# EAGLE library part STMICROELECTRONICS_STM32F205RBT6 (library STMicroelectronics - STM32F205RBT6)
MC-ARM-STM32F20X-SQ64
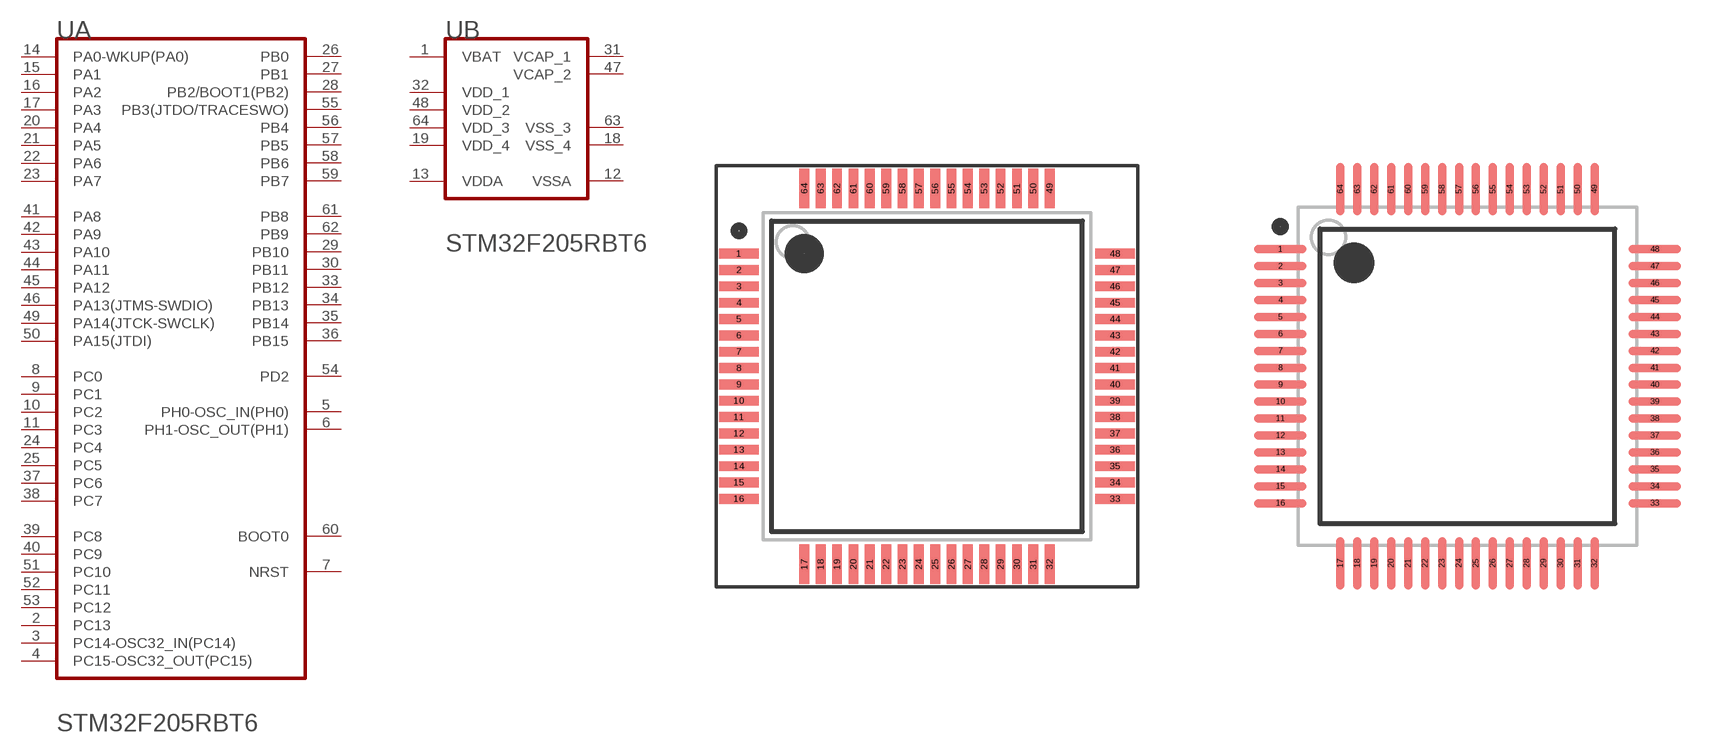
[diagram p0: symbol with the pads of STMICROELECTRONICS_STM32F205RBT6_0; footprints STMICROELECTRONICS_STM32F205RBT6_0, STMICROELECTRONICS_STM32F205RBT6_1]

Designator prefix U; gates A=STMICROELECTRONICS_STM32F205RBT6_0_0 B=STMICROELECTRONICS_STM32F205RBT6_0_1

## STMICROELECTRONICS_STM32F205RBT6STMICROELECTRONICS_STM32F205RBT6_0_0 (CIIVA_IDS: 3247052; COMPONENT_LINK_1_DESCRIPTION: Manufacturer URL; COMPONENT_LINK_1_URL: http://www.st.com/web/en/home.html; COMPONENT_LINK_3_DESCRIPTION: Package Specification; COMPONENT_LINK_3_URL: http://www.st.com/st-web-ui/static/active/en/resource/technical/document/datasheet/DM00037051.pdf; CORE: ARM Cortex-M3; DATASHEET: http://www.st.com/st-web-ui/static/active/en/resource/technical/document/datasheet/CD00237391.pdf; DATASHEET_VERSION: Rev. 9; DA_CONVERTER: 2x12-bit (2 Channel); FLASH_SIZE_PROG_KB: 128; FOOTPRINT_VARIANT_NAME_0: STM-LQFP64_V; FOOTPRINT_VARIANT_NAME_1: Level C; FOOTPRINT_VARIANT_NAME_2: Level B; FOOTPRINT_VARIANT_NAME_3: Level A; IMPORTED: yes; IMPORTED_FROM: vault; IMPORT_TS: 1521848045; INTERNAL_RAM_SIZE_KB: 64; IOS_HIGH_CURRENT: 51; MF: STMicroelectronics; MOUNTING_TECHNOLOGY: Surface Mount; MPN: STM32F205RBT6; OPERATING_FREQUENCYF_PROCESSOR_SPEED_MHZ: 120; PACKAGE: LQFP64; PACKAGE_DESCRIPTION: 64-Pin Low Profile Quad Flat Package, 10 x 10 mm Body, 0.5 mm Pitch; PACKAGE_VERSION: Rev. 4, 06/2013; PACKING: Tray; PREFIX: U; RELEASE_DATE: 1387182878; SUPPLY_VOLTAGEVCC_MIN_V: 1.8; VAULT_GUID: B9A76BA8-8D89-41EF-B639-2242C6D4A83A; VAULT_REVISION: 779F36A8-E3F5-4D53-926F-EE0FD9A3AA4E)  [STMICROELECTRONICS_STM32F205RBT6_0]
1  B:VBAT  pwr
2  A:PC13
3  A:PC14-OSC32_IN(PC14)
4  A:PC15-OSC32_OUT(PC15)
5  A:PH0-OSC_IN(PH0)
6  A:PH1-OSC_OUT(PH1)
7  A:NRST
8  A:PC0
9  A:PC1
10  A:PC2
11  A:PC3
12  B:VSSA  pwr
13  B:VDDA  pwr
14  A:PA0-WKUP(PA0)
15  A:PA1
16  A:PA2
17  A:PA3
18  B:VSS_4  pwr
19  B:VDD_4  pwr
20  A:PA4
21  A:PA5
22  A:PA6
23  A:PA7
24  A:PC4
25  A:PC5
26  A:PB0
27  A:PB1
28  A:PB2/BOOT1(PB2)
29  A:PB10
30  A:PB11
31  B:VCAP_1  pwr
32  B:VDD_1  pwr
33  A:PB12
34  A:PB13
35  A:PB14
36  A:PB15
37  A:PC6
38  A:PC7
39  A:PC8
40  A:PC9
41  A:PA8
42  A:PA9
43  A:PA10
44  A:PA11
45  A:PA12
46  A:PA13(JTMS-SWDIO)
47  B:VCAP_2  pwr
48  B:VDD_2  pwr
49  A:PA14(JTCK-SWCLK)
50  A:PA15(JTDI)
51  A:PC10
52  A:PC11
53  A:PC12
54  A:PD2
55  A:PB3(JTDO/TRACESWO)
56  A:PB4
57  A:PB5
58  A:PB6
59  A:PB7
60  A:BOOT0  in
61  A:PB8
62  A:PB9
63  B:VSS_3  pwr
64  B:VDD_3  pwr

## STMICROELECTRONICS_STM32F205RBT6STMICROELECTRONICS_STM32F205RBT6_0_1 (CIIVA_IDS: 3247052; COMPONENT_LINK_1_DESCRIPTION: Manufacturer URL; COMPONENT_LINK_1_URL: http://www.st.com/web/en/home.html; COMPONENT_LINK_3_DESCRIPTION: Package Specification; COMPONENT_LINK_3_URL: http://www.st.com/st-web-ui/static/active/en/resource/technical/document/datasheet/DM00037051.pdf; CORE: ARM Cortex-M3; DATASHEET: http://www.st.com/st-web-ui/static/active/en/resource/technical/document/datasheet/CD00237391.pdf; DATASHEET_VERSION: Rev. 9; DA_CONVERTER: 2x12-bit (2 Channel); FLASH_SIZE_PROG_KB: 128; FOOTPRINT_VARIANT_NAME_0: STM-LQFP64_V; FOOTPRINT_VARIANT_NAME_1: Level C; FOOTPRINT_VARIANT_NAME_2: Level B; FOOTPRINT_VARIANT_NAME_3: Level A; IMPORTED: yes; IMPORTED_FROM: vault; IMPORT_TS: 1521848045; INTERNAL_RAM_SIZE_KB: 64; IOS_HIGH_CURRENT: 51; MF: STMicroelectronics; MOUNTING_TECHNOLOGY: Surface Mount; MPN: STM32F205RBT6; OPERATING_FREQUENCYF_PROCESSOR_SPEED_MHZ: 120; PACKAGE: LQFP64; PACKAGE_DESCRIPTION: 64-Pin Low Profile Quad Flat Package, 10 x 10 mm Body, 0.5 mm Pitch; PACKAGE_VERSION: Rev. 4, 06/2013; PACKING: Tray; PREFIX: U; RELEASE_DATE: 1387182878; SUPPLY_VOLTAGEVCC_MIN_V: 1.8; VAULT_GUID: B9A76BA8-8D89-41EF-B639-2242C6D4A83A; VAULT_REVISION: 779F36A8-E3F5-4D53-926F-EE0FD9A3AA4E)  [STMICROELECTRONICS_STM32F205RBT6_1]
Pads as for STMICROELECTRONICS_STM32F205RBT6_0

## STMICROELECTRONICS_STM32F205RBT6STMICROELECTRONICS_STM32F205RBT6_0_2 (CIIVA_IDS: 3247052; COMPONENT_LINK_1_DESCRIPTION: Manufacturer URL; COMPONENT_LINK_1_URL: http://www.st.com/web/en/home.html; COMPONENT_LINK_3_DESCRIPTION: Package Specification; COMPONENT_LINK_3_URL: http://www.st.com/st-web-ui/static/active/en/resource/technical/document/datasheet/DM00037051.pdf; CORE: ARM Cortex-M3; DATASHEET: http://www.st.com/st-web-ui/static/active/en/resource/technical/document/datasheet/CD00237391.pdf; DATASHEET_VERSION: Rev. 9; DA_CONVERTER: 2x12-bit (2 Channel); FLASH_SIZE_PROG_KB: 128; FOOTPRINT_VARIANT_NAME_0: STM-LQFP64_V; FOOTPRINT_VARIANT_NAME_1: Level C; FOOTPRINT_VARIANT_NAME_2: Level B; FOOTPRINT_VARIANT_NAME_3: Level A; IMPORTED: yes; IMPORTED_FROM: vault; IMPORT_TS: 1521848045; INTERNAL_RAM_SIZE_KB: 64; IOS_HIGH_CURRENT: 51; MF: STMicroelectronics; MOUNTING_TECHNOLOGY: Surface Mount; MPN: STM32F205RBT6; OPERATING_FREQUENCYF_PROCESSOR_SPEED_MHZ: 120; PACKAGE: LQFP64; PACKAGE_DESCRIPTION: 64-Pin Low Profile Quad Flat Package, 10 x 10 mm Body, 0.5 mm Pitch; PACKAGE_VERSION: Rev. 4, 06/2013; PACKING: Tray; PREFIX: U; RELEASE_DATE: 1387182878; SUPPLY_VOLTAGEVCC_MIN_V: 1.8; VAULT_GUID: B9A76BA8-8D89-41EF-B639-2242C6D4A83A; VAULT_REVISION: 779F36A8-E3F5-4D53-926F-EE0FD9A3AA4E)  [STMICROELECTRONICS_STM32F205RBT6_2]
Pads as for STMICROELECTRONICS_STM32F205RBT6_0

## STMICROELECTRONICS_STM32F205RBT6STMICROELECTRONICS_STM32F205RBT6_0_3 (CIIVA_IDS: 3247052; COMPONENT_LINK_1_DESCRIPTION: Manufacturer URL; COMPONENT_LINK_1_URL: http://www.st.com/web/en/home.html; COMPONENT_LINK_3_DESCRIPTION: Package Specification; COMPONENT_LINK_3_URL: http://www.st.com/st-web-ui/static/active/en/resource/technical/document/datasheet/DM00037051.pdf; CORE: ARM Cortex-M3; DATASHEET: http://www.st.com/st-web-ui/static/active/en/resource/technical/document/datasheet/CD00237391.pdf; DATASHEET_VERSION: Rev. 9; DA_CONVERTER: 2x12-bit (2 Channel); FLASH_SIZE_PROG_KB: 128; FOOTPRINT_VARIANT_NAME_0: STM-LQFP64_V; FOOTPRINT_VARIANT_NAME_1: Level C; FOOTPRINT_VARIANT_NAME_2: Level B; FOOTPRINT_VARIANT_NAME_3: Level A; IMPORTED: yes; IMPORTED_FROM: vault; IMPORT_TS: 1521848045; INTERNAL_RAM_SIZE_KB: 64; IOS_HIGH_CURRENT: 51; MF: STMicroelectronics; MOUNTING_TECHNOLOGY: Surface Mount; MPN: STM32F205RBT6; OPERATING_FREQUENCYF_PROCESSOR_SPEED_MHZ: 120; PACKAGE: LQFP64; PACKAGE_DESCRIPTION: 64-Pin Low Profile Quad Flat Package, 10 x 10 mm Body, 0.5 mm Pitch; PACKAGE_VERSION: Rev. 4, 06/2013; PACKING: Tray; PREFIX: U; RELEASE_DATE: 1387182878; SUPPLY_VOLTAGEVCC_MIN_V: 1.8; VAULT_GUID: B9A76BA8-8D89-41EF-B639-2242C6D4A83A; VAULT_REVISION: 779F36A8-E3F5-4D53-926F-EE0FD9A3AA4E)  [STMICROELECTRONICS_STM32F205RBT6_3]
Pads as for STMICROELECTRONICS_STM32F205RBT6_0

## Footprint STMICROELECTRONICS_STM32F205RBT6_0 (pad centres in mm)
MC-ARM-STM32F20X-SQ64
smd 1.2 x 0.3: 1 -5.75,3.75; 2 -5.75,3.25; 3 -5.75,2.75; 4 -5.75,2.25; 5 -5.75,1.75; 6 -5.75,1.25; 7 -5.75,0.75; 8 -5.75,0.25; 9 -5.75,-0.25; 10 -5.75,-0.75; 11 -5.75,-1.25; 12 -5.75,-1.75; 13 -5.75,-2.25; 14 -5.75,-2.75; 15 -5.75,-3.25; 16 -5.75,-3.75; 33 5.75,-3.75; 34 5.75,-3.25; 35 5.75,-2.75; 36 5.75,-2.25; 37 5.75,-1.75; 38 5.75,-1.25; 39 5.75,-0.75; 40 5.75,-0.25; 41 5.75,0.25; 42 5.75,0.75; 43 5.75,1.25; 44 5.75,1.75; 45 5.75,2.25; 46 5.75,2.75; 47 5.75,3.25; 48 5.75,3.75
smd 0.3 x 1.2: 17 -3.75,-5.75; 18 -3.25,-5.75; 19 -2.75,-5.75; 20 -2.25,-5.75; 21 -1.75,-5.75; 22 -1.25,-5.75; 23 -0.75,-5.75; 24 -0.25,-5.75; 25 0.25,-5.75; 26 0.75,-5.75; 27 1.25,-5.75; 28 1.75,-5.75; 29 2.25,-5.75; 30 2.75,-5.75; 31 3.25,-5.75; 32 3.75,-5.75; 49 3.75,5.75; 50 3.25,5.75; 51 2.75,5.75; 52 2.25,5.75; 53 1.75,5.75; 54 1.25,5.75; 55 0.75,5.75; 56 0.25,5.75; 57 -0.25,5.75; 58 -0.75,5.75; 59 -1.25,5.75; 60 -1.75,5.75; 61 -2.25,5.75; 62 -2.75,5.75; 63 -3.25,5.75; 64 -3.75,5.75

## Footprint STMICROELECTRONICS_STM32F205RBT6_1 (pad centres in mm)
MC-ARM-STM32F20X-SQ64
smd 1.55 x 0.25: 1 -5.525,3.75; 2 -5.525,3.25; 3 -5.525,2.75; 4 -5.525,2.25; 5 -5.525,1.75; 6 -5.525,1.25; 7 -5.525,0.75; 8 -5.525,0.25; 9 -5.525,-0.25; 10 -5.525,-0.75; 11 -5.525,-1.25; 12 -5.525,-1.75; 13 -5.525,-2.25; 14 -5.525,-2.75; 15 -5.525,-3.25; 16 -5.525,-3.75; 33 5.525,-3.75; 34 5.525,-3.25; 35 5.525,-2.75; 36 5.525,-2.25; 37 5.525,-1.75; 38 5.525,-1.25; 39 5.525,-0.75; 40 5.525,-0.25; 41 5.525,0.25; 42 5.525,0.75; 43 5.525,1.25; 44 5.525,1.75; 45 5.525,2.25; 46 5.525,2.75; 47 5.525,3.25; 48 5.525,3.75
smd 0.25 x 1.55: 17 -3.75,-5.525; 18 -3.25,-5.525; 19 -2.75,-5.525; 20 -2.25,-5.525; 21 -1.75,-5.525; 22 -1.25,-5.525; 23 -0.75,-5.525; 24 -0.25,-5.525; 25 0.25,-5.525; 26 0.75,-5.525; 27 1.25,-5.525; 28 1.75,-5.525; 29 2.25,-5.525; 30 2.75,-5.525; 31 3.25,-5.525; 32 3.75,-5.525; 49 3.75,5.525; 50 3.25,5.525; 51 2.75,5.525; 52 2.25,5.525; 53 1.75,5.525; 54 1.25,5.525; 55 0.75,5.525; 56 0.25,5.525; 57 -0.25,5.525; 58 -0.75,5.525; 59 -1.25,5.525; 60 -1.75,5.525; 61 -2.25,5.525; 62 -2.75,5.525; 63 -3.25,5.525; 64 -3.75,5.525

## Footprint STMICROELECTRONICS_STM32F205RBT6_2 (pad centres in mm)
MC-ARM-STM32F20X-SQ64
smd 1.8 x 0.3: 1 -5.55,3.75; 2 -5.55,3.25; 3 -5.55,2.75; 4 -5.55,2.25; 5 -5.55,1.75; 6 -5.55,1.25; 7 -5.55,0.75; 8 -5.55,0.25; 9 -5.55,-0.25; 10 -5.55,-0.75; 11 -5.55,-1.25; 12 -5.55,-1.75; 13 -5.55,-2.25; 14 -5.55,-2.75; 15 -5.55,-3.25; 16 -5.55,-3.75; 33 5.55,-3.75; 34 5.55,-3.25; 35 5.55,-2.75; 36 5.55,-2.25; 37 5.55,-1.75; 38 5.55,-1.25; 39 5.55,-0.75; 40 5.55,-0.25; 41 5.55,0.25; 42 5.55,0.75; 43 5.55,1.25; 44 5.55,1.75; 45 5.55,2.25; 46 5.55,2.75; 47 5.55,3.25; 48 5.55,3.75
smd 0.3 x 1.8: 17 -3.75,-5.55; 18 -3.25,-5.55; 19 -2.75,-5.55; 20 -2.25,-5.55; 21 -1.75,-5.55; 22 -1.25,-5.55; 23 -0.75,-5.55; 24 -0.25,-5.55; 25 0.25,-5.55; 26 0.75,-5.55; 27 1.25,-5.55; 28 1.75,-5.55; 29 2.25,-5.55; 30 2.75,-5.55; 31 3.25,-5.55; 32 3.75,-5.55; 49 3.75,5.55; 50 3.25,5.55; 51 2.75,5.55; 52 2.25,5.55; 53 1.75,5.55; 54 1.25,5.55; 55 0.75,5.55; 56 0.25,5.55; 57 -0.25,5.55; 58 -0.75,5.55; 59 -1.25,5.55; 60 -1.75,5.55; 61 -2.25,5.55; 62 -2.75,5.55; 63 -3.25,5.55; 64 -3.75,5.55

## Footprint STMICROELECTRONICS_STM32F205RBT6_3 (pad centres in mm)
MC-ARM-STM32F20X-SQ64
smd 2.1 x 0.3: 1 -5.6,3.75; 2 -5.6,3.25; 3 -5.6,2.75; 4 -5.6,2.25; 5 -5.6,1.75; 6 -5.6,1.25; 7 -5.6,0.75; 8 -5.6,0.25; 9 -5.6,-0.25; 10 -5.6,-0.75; 11 -5.6,-1.25; 12 -5.6,-1.75; 13 -5.6,-2.25; 14 -5.6,-2.75; 15 -5.6,-3.25; 16 -5.6,-3.75; 33 5.6,-3.75; 34 5.6,-3.25; 35 5.6,-2.75; 36 5.6,-2.25; 37 5.6,-1.75; 38 5.6,-1.25; 39 5.6,-0.75; 40 5.6,-0.25; 41 5.6,0.25; 42 5.6,0.75; 43 5.6,1.25; 44 5.6,1.75; 45 5.6,2.25; 46 5.6,2.75; 47 5.6,3.25; 48 5.6,3.75
smd 0.3 x 2.1: 17 -3.75,-5.6; 18 -3.25,-5.6; 19 -2.75,-5.6; 20 -2.25,-5.6; 21 -1.75,-5.6; 22 -1.25,-5.6; 23 -0.75,-5.6; 24 -0.25,-5.6; 25 0.25,-5.6; 26 0.75,-5.6; 27 1.25,-5.6; 28 1.75,-5.6; 29 2.25,-5.6; 30 2.75,-5.6; 31 3.25,-5.6; 32 3.75,-5.6; 49 3.75,5.6; 50 3.25,5.6; 51 2.75,5.6; 52 2.25,5.6; 53 1.75,5.6; 54 1.25,5.6; 55 0.75,5.6; 56 0.25,5.6; 57 -0.25,5.6; 58 -0.75,5.6; 59 -1.25,5.6; 60 -1.75,5.6; 61 -2.25,5.6; 62 -2.75,5.6; 63 -3.25,5.6; 64 -3.75,5.6